# EAGLE library part 2706-107 (library con-wago_2706)
Serie 2706, Klemmenleisten mit Betätigungshebeln 2 Lötstifte/Pol / Series 2706, Terminal strips with operating levers 2 solder pins/pole Polzahl / Pole No.: 7 Bemessungsspannung / Rated Voltage: 630 V Nennstrom / Nominal Current: 41 A Leiterquerschnitt / Conductor Size: 0.5 - 6 mm² Anschlusstechnik / Connection Technology: CAGE CLAMP® Lötstiftlänge: / Solder Pin Length: 4.5 mm Leitereinführung (zur Platine) / Conductor entry angle (to PCB): 30 ° Farbe / Color: grau / gray Stand: 01.01.2012. Die jeweils aktuellen Daten zu diesem Artikel finden Sie in unserem Produktkatalog, den Sie unter www.wago.com einsehen können. As of: 01/01/2012. Please find the newest data for this article in our product catalogue, which can be viewed under www.wago.com.
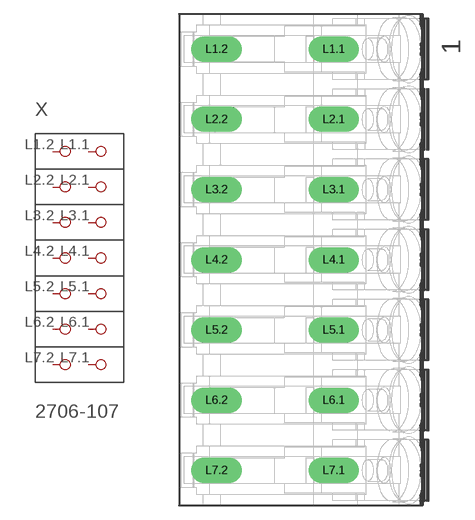
[diagram p4: symbol with the pads of P-2706-107; footprint P-2706-107]

Designator prefix X

## 2706-107  [P-2706-107]
L1.1  P1.1
L1.2  P1.2
L2.1  P2.1
L2.2  P2.2
L3.1  P3.1
L3.2  P3.2
L4.1  P4.1
L4.2  P4.2
L5.1  P5.1
L5.2  P5.2
L6.1  P6.1
L6.2  P6.2
L7.1  P7.1
L7.2  P7.2

## Footprint P-2706-107 (pad centres in mm)
drill 1.8 long: L1.1 3.185,22.5; L1.2 -9.315,22.5; L2.1 3.185,15; L2.2 -9.315,15; L3.1 3.185,7.5; L3.2 -9.315,7.5; L4.1 3.185,0; L4.2 -9.315,0; L5.1 3.185,-7.5; L5.2 -9.315,-7.5; L6.1 3.185,-15; L6.2 -9.315,-15; L7.1 3.185,-22.5; L7.2 -9.315,-22.5